# EAGLE library part TN36-127/220-50 (library _mtvl_trans)
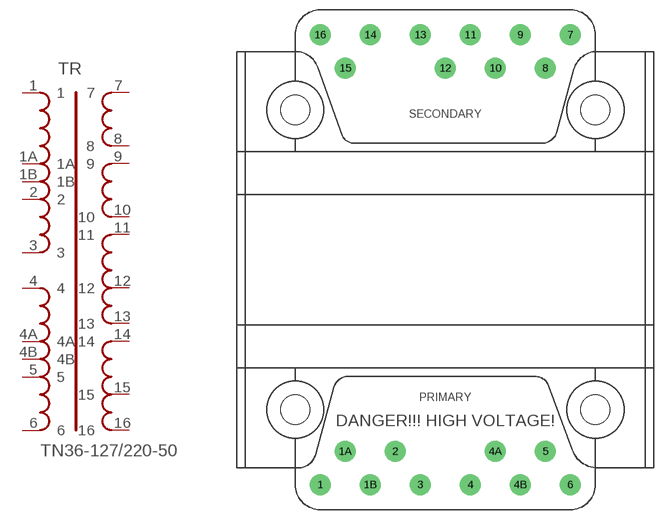
[diagram p0: symbol with the pads of TN36-127/220-50; footprint TN36-127/220-50]

Designator prefix TR

## TN36-127/220-50  [TN36-127/220-50]
1  1  pas
1A  1A  pas
1B  1B  pas
2  2  pas
3  3  pas
4  4  pas
4A  4A  pas
4B  4B  pas
5  5  pas
6  6  pas
7  7  pas
8  8  pas
9  9  pas
10  10  pas
11  11  pas
12  12  pas
13  13  pas
14  14  pas
15  15  pas
16  16  pas

## Footprint TN36-127/220-50 (pad centres in mm)
drill 2.2: 1 -19.05,-34.29; 1A -15.24,-29.21; 1B -11.43,-34.29; 2 -7.62,-29.21; 3 -3.81,-34.29; 4 3.81,-34.29; 4A 7.62,-29.21; 4B 11.43,-34.29; 5 15.24,-29.21; 6 19.05,-34.29; 7 19.05,34.29; 8 15.24,29.21; 9 11.43,34.29; 10 7.62,29.21; 11 3.81,34.29; 12 0,29.21; 13 -3.81,34.29; 14 -11.43,34.29; 15 -15.24,29.21; 16 -19.05,34.29
hole 4.445 at -22.86,22.86
hole 4.445 at 22.86,22.86
hole 4.445 at 22.86,-22.86
hole 4.445 at -22.86,-22.86